# EAGLE library part MICRO_USB-B (library LARS_409_USB)
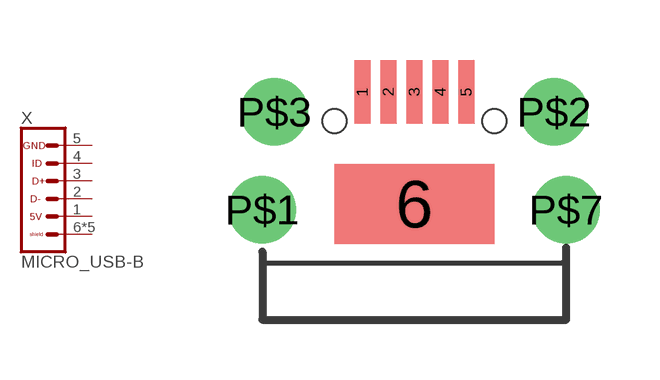
[diagram p1: symbol with the pads of 1981584-1; footprint 1981584-1]

Designator prefix X

## MICRO_USB-B  [1981584-1]
1  5V  pas
2  D-  pas
3  D+  pas
4  ID  pas
5  GND  pas
6  SHIELD  pas
P$1  SHIELD  pas
P$2  SHIELD  pas
P$3  SHIELD  pas
P$7  SHIELD  pas

## Footprint 1981584-1 (pad centres in mm)
Micro USB Type-A/B Receptacle Tyco Electronics
smd 0.4 x 1.6: 1 -1.3,4.4; 2 -0.65,4.4; 3 0,4.4; 4 0.65,4.4; 5 1.3,4.4
smd 4 x 2: 6 0,1.6
drill 1 pad 1.676: P$1 -3.8,1.45; P$2 3.5,3.9; P$3 -3.5,3.9; P$7 3.8,1.45
hole 0.6 at -2,3.67
hole 0.6 at 2,3.67